# Altium integrated library Linear Technology Power Management PMIC Multifunction.IntLib: 360 symbols (part 5 of 42)
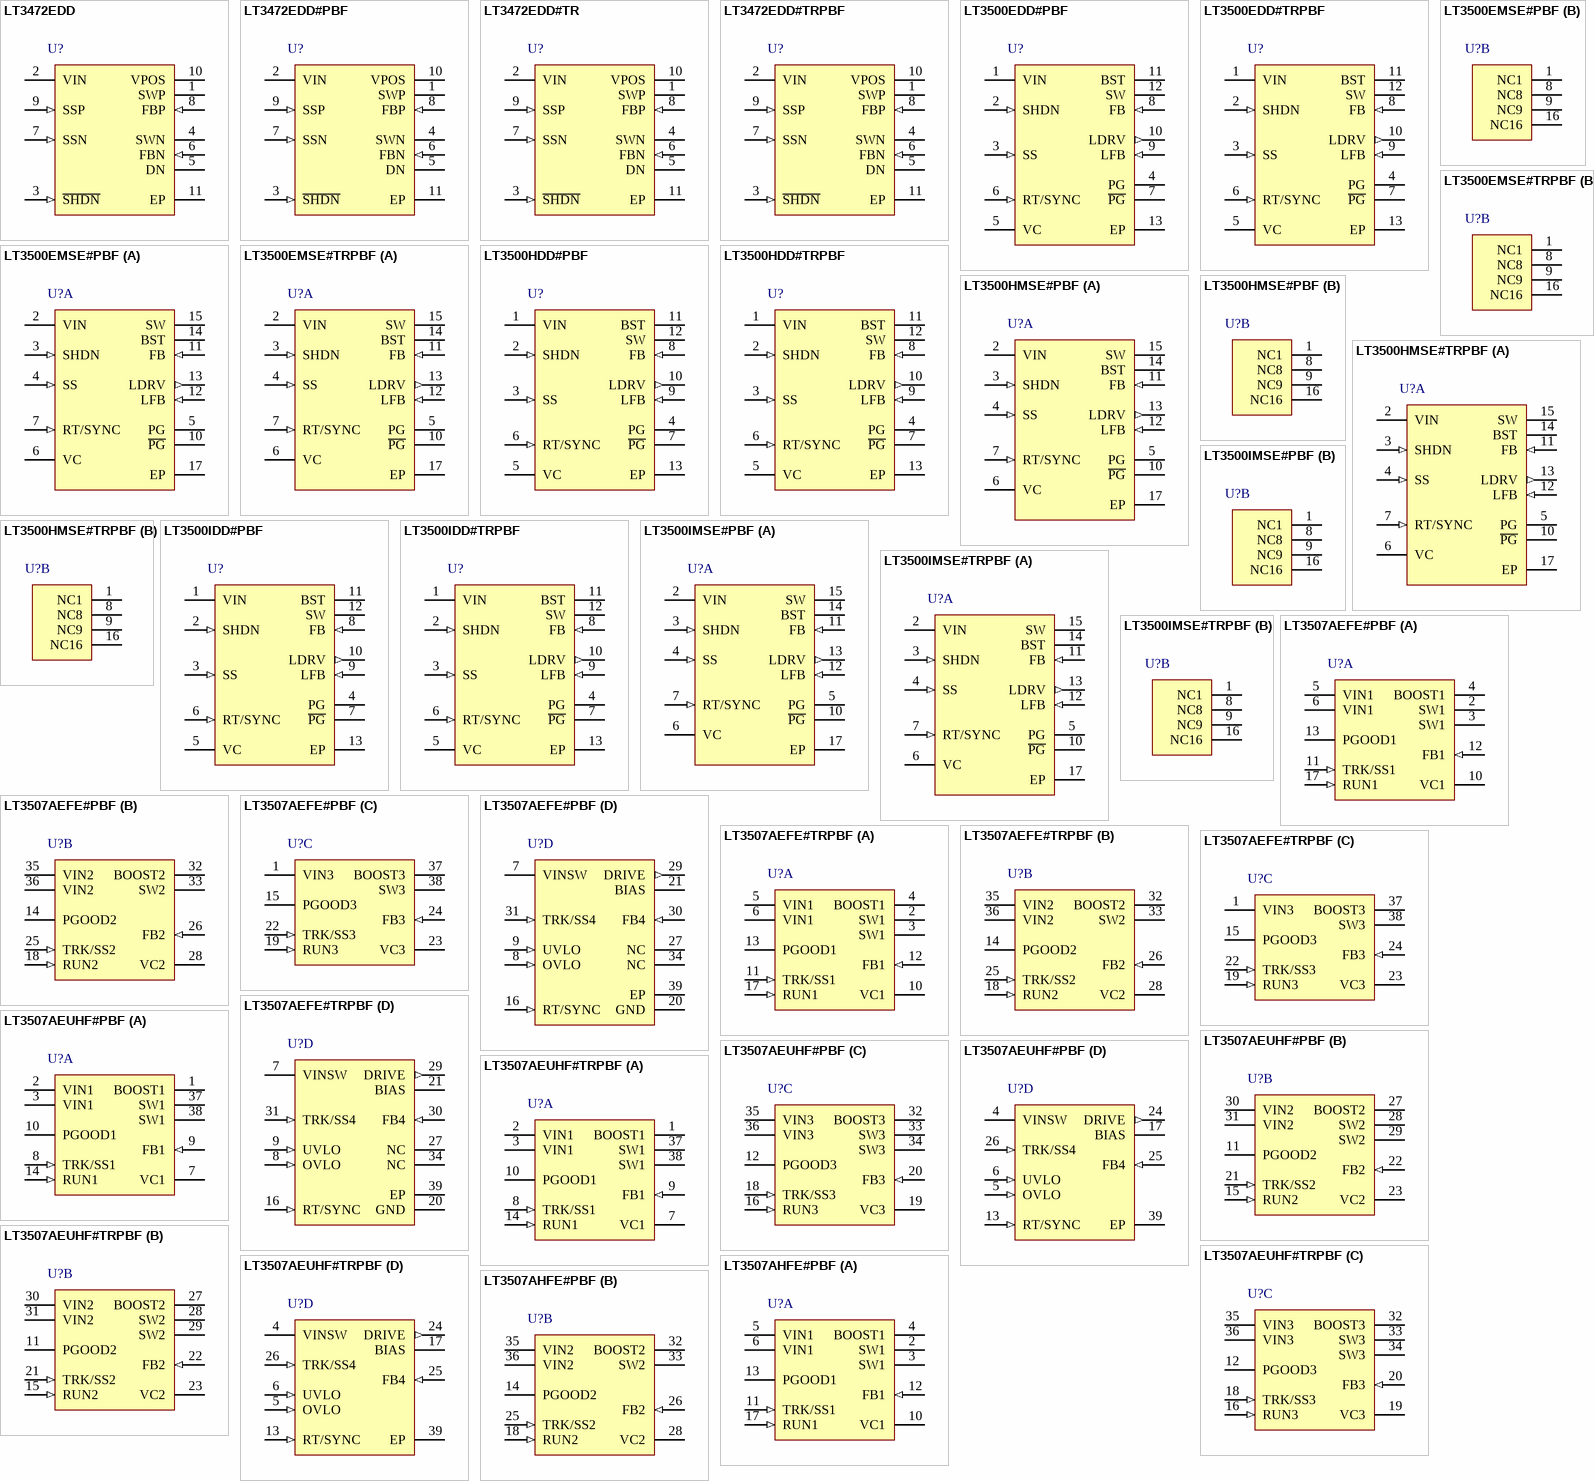
[diagram p22: symbols LT3472EDD to LT3507AHFE#PBF]

## LT3507AEUHF#PBF
designator U?
Triple Monolithic Step-Down Regulator with LDO, Improved Output Current, 4 to 36 V Vin, 38-pin QFN (UHF-38), -40 to 125 degC, Pb-Free; Manufacturer: Linear Technology; PartNumber: LT3507AEUHF#PBF; Number of Outputs: 4; Vin Max(V): 36; PackageVersion: Rev. C, 06/2010; PackageReference: UHF-38; PackageDescription: 38-Pin Plastic QFN, Body 7 x 5 mm, Pitch 0.5 mm; Supplier 1: Digi-Key; Supplier Part Number 1: LT3507AEUHF#PBF-ND; Supplier 2: Newark; Supplier Part Number 2: 59T9379; RoHS: TRUE; Vin Min(V): 4; Mounting Technology: Surface Mount; Code_JEDEC: MO-220; ComponentLink1Description: Manufacturer URL; ComponentLink1URL: http://www.linear.com/; ComponentLink2Description: Datasheet; ComponentLink2URL: http://cds.linear.com/docs/en/datasheet/3507af.pdf; ComponentLink3Description: Package Specification; ComponentLink3URL: http://cds.linear.com/docs/en/packaging/QFN_38_05-08-1701.pdf
footprint LT-UHF-38_N (QFN, 38-Leads, Body 7.1x5.1mm, Pitch 0.5mm, Thermal Pad 3.15x5.15mm, IPC Medium Density)
footprint LT-UHF-38_L (QFN, 38-Leads, Body 7.1x5.1mm, Pitch 0.5mm, Thermal Pad 3.15x5.15mm, IPC High Density)
footprint LT-UHF-38_M (QFN, 38-Leads, Body 7.1x5.1mm, Pitch 0.5mm, Thermal Pad 3.15x5.15mm, IPC Low Density)
part A pins: 1 BOOST1 "The BOOST pins are used to provide drive voltages, higher than the input voltage, to the internal bipolar NPN power switches. These pins must be tied through a diode from VOUT, VIN or another supply greater than 2.5V.", 2 VIN1 (power), 3 VIN1 (power), 7 VC1 "The VC pins are the outputs of the internal error amps. The voltages on these pins control the peak switch currents. These pins are normally used to compensate the control loops. Each switching regulator can be shut down by (See Datasheet)", 8 TRK/SS1 (in), 9 FB1 (in), 10 PGOOD1 (hiz) "The PGOOD pins are the open-collector outputs of an internal comparator. PGOOD remains low until the FB pin is within 10% of the final regulation voltage. As well as indicating output regulation, the PGOOD pins can sequence (See Datasheet)", 14 RUN1 (in), 37 SW1 (power) "The SW pins are the outputs of the internal power switches. Connect these pins to the inductors and switching diodes", 38 SW1 (power) "The SW pins are the outputs of the internal power switches. Connect these pins to the inductors and switching diodes"
part B pins: 11 PGOOD2 (hiz) "The PGOOD pins are the open-collector outputs of an internal comparator. PGOOD remains low until the FB pin is within 10% of the final regulation voltage. As well as indicating output regulation, the PGOOD pins can sequence (See Datasheet)", 15 RUN2 (in), 21 TRK/SS2 (in), 22 FB2 (in), 23 VC2 "The VC pins are the outputs of the internal error amps. The voltages on these pins control the peak switch currents. These pins are normally used to compensate the control loops. Each switching regulator can be shut down by (See Datasheet)", 27 BOOST2 "The BOOST pins are used to provide drive voltages, higher than the input voltage, to the internal bipolar NPN power switches. These pins must be tied through a diode from VOUT, VIN or another supply greater than 2.5V.", 28 SW2 (power) "The SW pins are the outputs of the internal power switches. Connect these pins to the inductors and switching diodes", 29 SW2 (power) "The SW pins are the outputs of the internal power switches. Connect these pins to the inductors and switching diodes", 30 VIN2 (power), 31 VIN2 (power)
part C pins: 12 PGOOD3 (hiz) "The PGOOD pins are the open-collector outputs of an internal comparator. PGOOD remains low until the FB pin is within 10% of the final regulation voltage. As well as indicating output regulation, the PGOOD pins can sequence (See Datasheet)", 16 RUN3 (in), 18 TRK/SS3 (in), 19 VC3 "The VC pins are the outputs of the internal error amps. The voltages on these pins control the peak switch currents. These pins are normally used to compensate the control loops. Each switching regulator can be shut down by (See Datasheet)", 20 FB3 (in), 32 BOOST3 "The BOOST pins are used to provide drive voltages, higher than the input voltage, to the internal bipolar NPN power switches. These pins must be tied through a diode from VOUT, VIN or another supply greater than 2.5V.", 33 SW3 (power) "The SW pins are the outputs of the internal power switches. Connect these pins to the inductors and switching diodes", 34 SW3 (power) "The SW pins are the outputs of the internal power switches. Connect these pins to the inductors and switching diodes", 35 VIN3 (power), 36 VIN3 (power)
part D pins: 4 VINSW (power) "The VINSW pin is a switched VIN1 for the user programmable undervoltage and overvoltage detection. It is connected to VIN1 when any of the RUN pins are pulled high, and high impedance when all RUN pins are low or open.", 5 OVLO (in), 6 UVLO (in), 13 RT/SYNC (in), 17 BIAS (power), 24 DRIVE (out) "The DRIVE pin provides the base drive for an external NPN transistor used for the LDO regulator.", 25 FB4 (in) "The FB4 pin is the negative input to the LDO error amplifier. It is regulated to 0.8V through the LDO feedback resistor divider.", 26 TRK/SS4 (in), 39 EP (power) "Ground. The underside exposed pad metal of the package provides both electrical contact to ground and good thermal contact to the printed circuit board. The exposed pad must be soldered to a grounded pad on the circuit board (See Datasheet)"

## LT3507AEUHF#TRPBF
designator U?
Triple Monolithic Step-Down Regulator with LDO, Improved Output Current, 4 to 36 V Vin, 38-pin QFN (UHF-38), -40 to 125 degC, Pb-Free, Tape and Reel; Manufacturer: Linear Technology; PartNumber: LT3507AEUHF#TRPBF; Number of Outputs: 4; Vin Max(V): 36; PackageVersion: Rev. C, 06/2010; PackageReference: UHF-38; PackageDescription: 38-Pin Plastic QFN, Body 7 x 5 mm, Pitch 0.5 mm; Supplier 1: Digi-Key; Supplier Part Number 1: LT3507AEUHF#TRPBF-ND; Packing: Tape and Reel; RoHS: TRUE; Vin Min(V): 4; Mounting Technology: Surface Mount; Code_JEDEC: MO-220; ComponentLink1Description: Manufacturer URL; ComponentLink1URL: http://www.linear.com/; ComponentLink2Description: Datasheet; ComponentLink2URL: http://cds.linear.com/docs/en/datasheet/3507af.pdf; ComponentLink3Description: Package Specification; ComponentLink3URL: http://cds.linear.com/docs/en/packaging/QFN_38_05-08-1701.pdf
footprint LT-UHF-38_N (QFN, 38-Leads, Body 7.1x5.1mm, Pitch 0.5mm, Thermal Pad 3.15x5.15mm, IPC Medium Density)
footprint LT-UHF-38_L (QFN, 38-Leads, Body 7.1x5.1mm, Pitch 0.5mm, Thermal Pad 3.15x5.15mm, IPC High Density)
footprint LT-UHF-38_M (QFN, 38-Leads, Body 7.1x5.1mm, Pitch 0.5mm, Thermal Pad 3.15x5.15mm, IPC Low Density)
part A pins: 1 BOOST1 "The BOOST pins are used to provide drive voltages, higher than the input voltage, to the internal bipolar NPN power switches. These pins must be tied through a diode from VOUT, VIN or another supply greater than 2.5V.", 2 VIN1 (power), 3 VIN1 (power), 7 VC1 "The VC pins are the outputs of the internal error amps. The voltages on these pins control the peak switch currents. These pins are normally used to compensate the control loops. Each switching regulator can be shut down by (See Datasheet)", 8 TRK/SS1 (in), 9 FB1 (in), 10 PGOOD1 (hiz) "The PGOOD pins are the open-collector outputs of an internal comparator. PGOOD remains low until the FB pin is within 10% of the final regulation voltage. As well as indicating output regulation, the PGOOD pins can sequence (See Datasheet)", 14 RUN1 (in), 37 SW1 (power) "The SW pins are the outputs of the internal power switches. Connect these pins to the inductors and switching diodes", 38 SW1 (power) "The SW pins are the outputs of the internal power switches. Connect these pins to the inductors and switching diodes"
part B pins: 11 PGOOD2 (hiz) "The PGOOD pins are the open-collector outputs of an internal comparator. PGOOD remains low until the FB pin is within 10% of the final regulation voltage. As well as indicating output regulation, the PGOOD pins can sequence (See Datasheet)", 15 RUN2 (in), 21 TRK/SS2 (in), 22 FB2 (in), 23 VC2 "The VC pins are the outputs of the internal error amps. The voltages on these pins control the peak switch currents. These pins are normally used to compensate the control loops. Each switching regulator can be shut down by (See Datasheet)", 27 BOOST2 "The BOOST pins are used to provide drive voltages, higher than the input voltage, to the internal bipolar NPN power switches. These pins must be tied through a diode from VOUT, VIN or another supply greater than 2.5V.", 28 SW2 (power) "The SW pins are the outputs of the internal power switches. Connect these pins to the inductors and switching diodes", 29 SW2 (power) "The SW pins are the outputs of the internal power switches. Connect these pins to the inductors and switching diodes", 30 VIN2 (power), 31 VIN2 (power)
part C pins: 12 PGOOD3 (hiz) "The PGOOD pins are the open-collector outputs of an internal comparator. PGOOD remains low until the FB pin is within 10% of the final regulation voltage. As well as indicating output regulation, the PGOOD pins can sequence (See Datasheet)", 16 RUN3 (in), 18 TRK/SS3 (in), 19 VC3 "The VC pins are the outputs of the internal error amps. The voltages on these pins control the peak switch currents. These pins are normally used to compensate the control loops. Each switching regulator can be shut down by (See Datasheet)", 20 FB3 (in), 32 BOOST3 "The BOOST pins are used to provide drive voltages, higher than the input voltage, to the internal bipolar NPN power switches. These pins must be tied through a diode from VOUT, VIN or another supply greater than 2.5V.", 33 SW3 (power) "The SW pins are the outputs of the internal power switches. Connect these pins to the inductors and switching diodes", 34 SW3 (power) "The SW pins are the outputs of the internal power switches. Connect these pins to the inductors and switching diodes", 35 VIN3 (power), 36 VIN3 (power)
part D pins: 4 VINSW (power) "The VINSW pin is a switched VIN1 for the user programmable undervoltage and overvoltage detection. It is connected to VIN1 when any of the RUN pins are pulled high, and high impedance when all RUN pins are low or open.", 5 OVLO (in), 6 UVLO (in), 13 RT/SYNC (in), 17 BIAS (power), 24 DRIVE (out) "The DRIVE pin provides the base drive for an external NPN transistor used for the LDO regulator.", 25 FB4 (in) "The FB4 pin is the negative input to the LDO error amplifier. It is regulated to 0.8V through the LDO feedback resistor divider.", 26 TRK/SS4 (in), 39 EP (power) "Ground. The underside exposed pad metal of the package provides both electrical contact to ground and good thermal contact to the printed circuit board. The exposed pad must be soldered to a grounded pad on the circuit board (See Datasheet)"

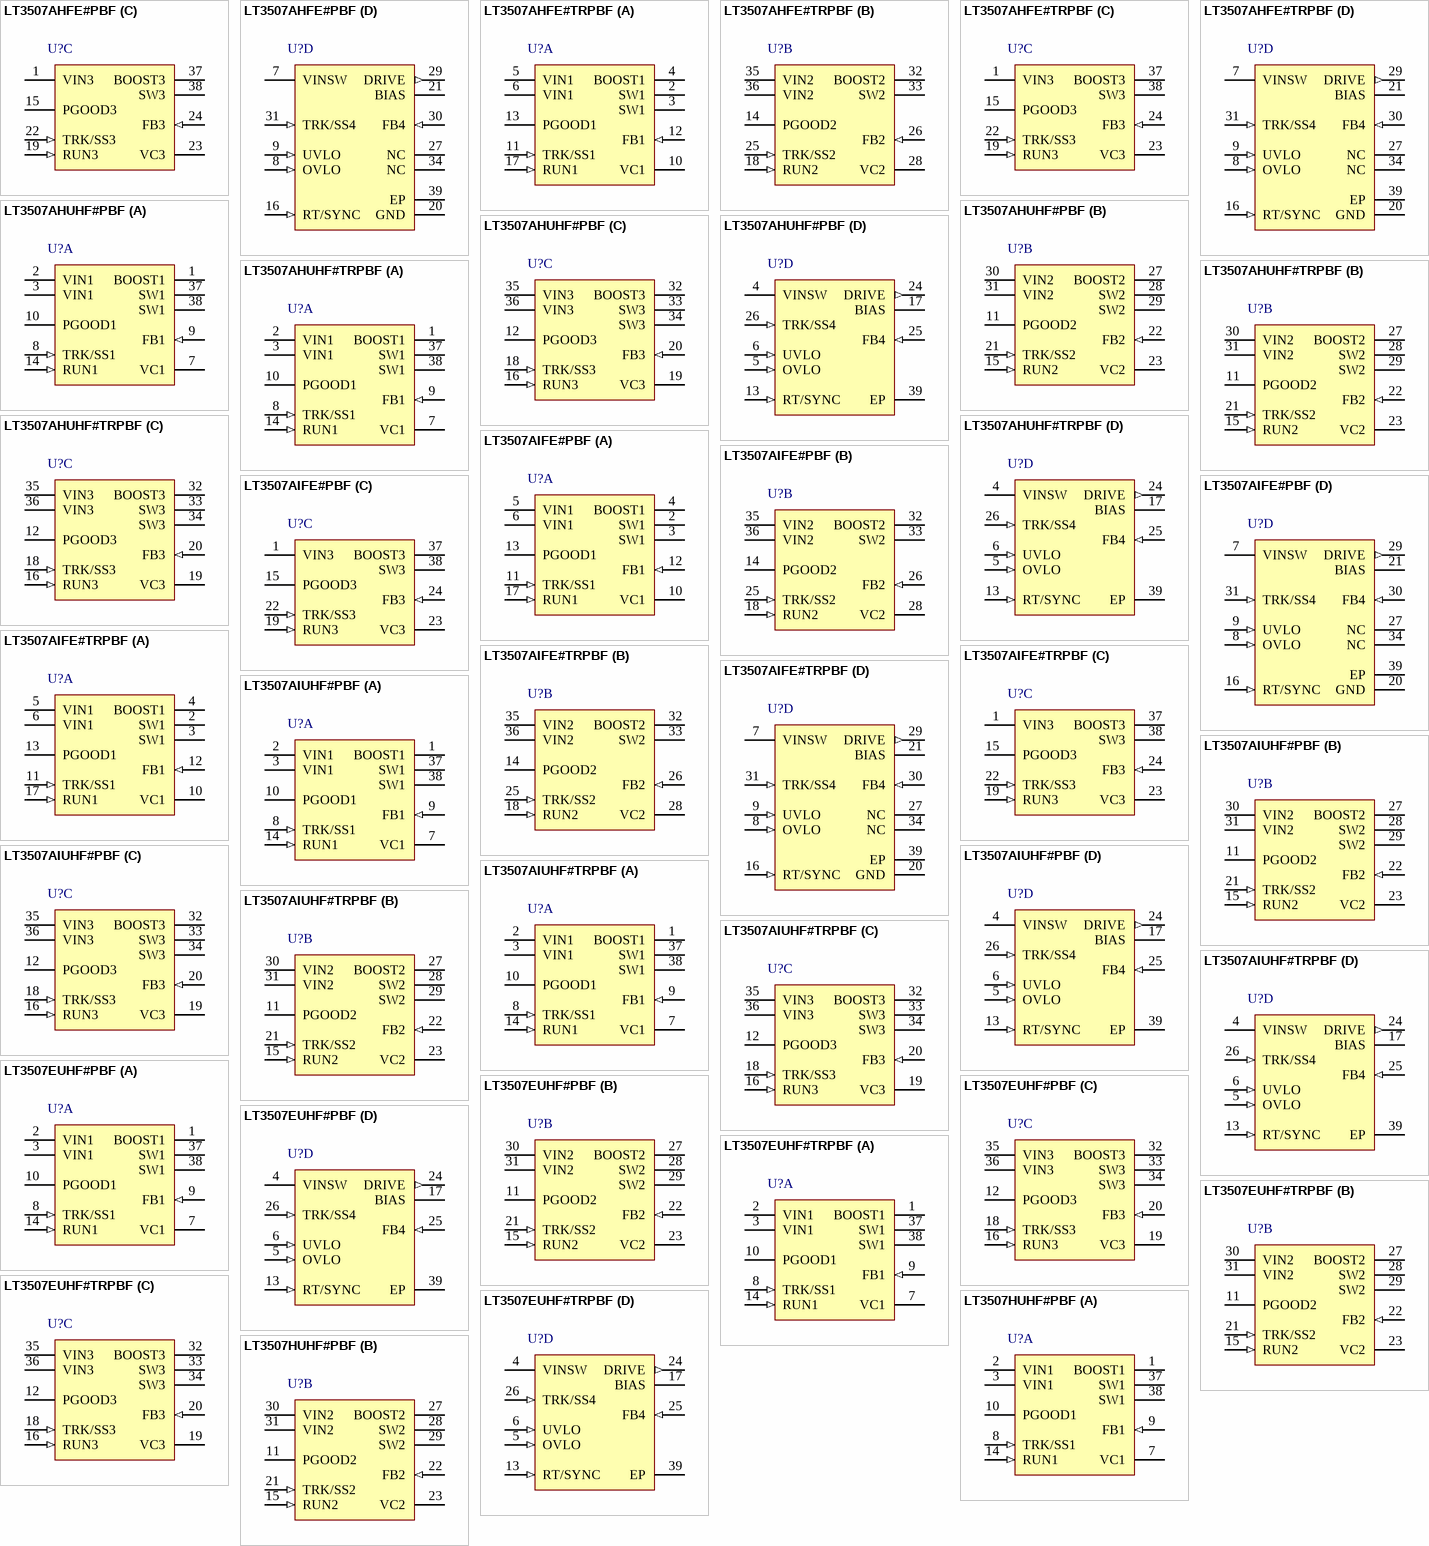
[diagram p2: symbols LT3507AHFE#PBF to LT3507HUHF#PBF]

## LT3507AHFE#PBF
designator U?
Triple Monolithic Step-Down Regulator with LDO, Improved Output Current, 4 to 36 V Vin, 38-pin SOP (FE-38-EPV-AA), -40 to 150 degC, Pb-Free; Manufacturer: Linear Technology; PartNumber: LT3507AHFE#PBF; Number of Outputs: 4; Vin Max(V): 36; PackageVersion: Rev. C, 09/2010; PackageReference: FE-38; PackageDescription: 38-Pin Plastic TSSOP, Body 9.7 x 4.4 mm, Pitch 0.5 mm; Supplier 1: Digi-Key; Supplier Part Number 1: LT3507AHFE#PBF-ND; RoHS: TRUE; Vin Min(V): 4; Mounting Technology: Surface Mount; ComponentLink1Description: Manufacturer URL; ComponentLink1URL: http://www.linear.com/; ComponentLink2Description: Datasheet; ComponentLink2URL: http://cds.linear.com/docs/en/datasheet/3507af.pdf; ComponentLink3Description: Package Specification; ComponentLink3URL: http://cds.linear.com/docs/en/packaging/TSSOP_38_05-08-1772.pdf
footprint LT-FE-38-EPV-AA_N (SOP, 38-Leads, Body 9.8x4.5mm, Pitch 0.5mm, Thermal Pad 4.75x2.74mm, IPC Medium Density)
footprint LT-FE-38-EPV-AA_L (SOP, 38-Leads, Body 9.8x4.5mm, Pitch 0.5mm, Thermal Pad 4.75x2.74mm, IPC High Density)
footprint LT-FE-38-EPV-AA_M (SOP, 38-Leads, Body 9.8x4.5mm, Pitch 0.5mm, Thermal Pad 4.75x2.74mm, IPC Low Density)
part A pins: 2 SW1 (power) "The SW pins are the outputs of the internal power switches. Connect these pins to the inductors and switching diodes", 3 SW1 (power) "The SW pins are the outputs of the internal power switches. Connect these pins to the inductors and switching diodes", 4 BOOST1 "The BOOST pins are used to provide drive voltages, higher than the input voltage, to the internal bipolar NPN power switches. These pins must be tied through a diode from VOUT, VIN or another supply greater than 2.5V.", 5 VIN1 (power) "The VIN1 pins supply power to the internal switch of the 2.7A regulator and to the LT3507A’s internal reference and start-up circuitry. These pins must be locally bypassed.", 6 VIN1 (power) "The VIN1 pins supply power to the internal switch of the 2.7A regulator and to the LT3507A’s internal reference and start-up circuitry. These pins must be locally bypassed.", 10 VC1 "The VC pins are the outputs of the internal error amps. The voltages on these pins control the peak switch currents. These pins are normally used to compensate the control loops. Each switching regulator can be shut down by (See Datasheet)", 11 TRK/SS1 (in) "The TRK/SS pins allow a regulator to track the output of another regulator. When the TRK/SS pin is below 0.8V, the FB pin regulates to the TRK/SS voltage. This pin souces 1.25uA and can be used as a soft-start by connecting (See Datasheet)", 12 FB1 (in) "The FB pins are the negative inputs of the error amplifiers. The LT3507A regulates each feedback pin to the lesser of 0.8V or the TRK/SS pin voltage. Connect the feedback resistor divider taps to these pins", 13 PGOOD1 (hiz) "The PGOOD pins are the open-collector outputs of an internal comparator. PGOOD remains low until the FB pin is within 10% of the final regulation voltage. As well as indicating output regulation, the PGOOD pins can sequence (See Datasheet)", 17 RUN1 (in) "The RUN pins are used to shut down the individual switching regulators. When all three RUN pins are low, the LT3507A shuts down and draws less than 1uA from VIN1."
part B pins: 14 PGOOD2 (hiz) "The PGOOD pins are the open-collector outputs of an internal comparator. PGOOD remains low until the FB pin is within 10% of the final regulation voltage. As well as indicating output regulation, the PGOOD pins can sequence (See Datasheet)", 18 RUN2 (in) "The RUN pins are used to shut down the individual switching regulators. When all three RUN pins are low, the LT3507A shuts down and draws less than 1uA from VIN1.", 25 TRK/SS2 (in) "The TRK/SS pins allow a regulator to track the output of another regulator. When the TRK/SS pin is below 0.8V, the FB pin regulates to the TRK/SS voltage. This pin souces 1.25uA and can be used as a soft-start by connecting (See Datasheet)", 26 FB2 (in) "The FB pins are the negative inputs of the error amplifiers. The LT3507A regulates each feedback pin to the lesser of 0.8V or the TRK/SS pin voltage. Connect the feedback resistor divider taps to these pins.", 28 VC2 "The VC pins are the outputs of the internal error amps. The voltages on these pins control the peak switch currents. These pins are normally used to compensate the control loops. Each switching regulator can be shut down by (See Datasheet)", 32 BOOST2 "The BOOST pins are used to provide drive voltages, higher than the input voltage, to the internal bipolar NPN power switches. These pins must be tied through a diode from VOUT, VIN or another supply greater than 2.5V.", 33 SW2 (power) "The SW pins are the outputs of the internal power switches. Connect these pins to the inductors and switching diodes", 35 VIN2 (power) "The VIN2 and VIN3 pins supply power to the internal switches of the 1.8A converters. These pins must be locally bypassed.", 36 VIN2 (power) "The VIN2 and VIN3 pins supply power to the internal switches of the 1.8A converters. These pins must be locally bypassed."
part C pins: 1 VIN3 (power) "The VIN2 and VIN3 pins supply power to the internal switches of the 1.8A converters. These pins must be locally bypassed.", 15 PGOOD3 (hiz) "The PGOOD pins are the open-collector outputs of an internal comparator. PGOOD remains low until the FB pin is within 10% of the final regulation voltage. As well as indicating output regulation, the PGOOD pins can sequence (See Datasheet)", 19 RUN3 (in) "The RUN pins are used to shut down the individual switching regulators. When all three RUN pins are low, the LT3507A shuts down and draws less than 1uA from VIN1.", 22 TRK/SS3 (in) "The TRK/SS pins allow a regulator to track the output of another regulator. When the TRK/SS pin is below 0.8V, the FB pin regulates to the TRK/SS voltage. This pin souces 1.25uA and can be used as a soft-start by connecting (See Datasheet)", 23 VC3 "The VC pins are the outputs of the internal error amps. The voltages on these pins control the peak switch currents. These pins are normally used to compensate the control loops. Each switching regulator can be shut down by (See Datasheet)", 24 FB3 (in) "The FB pins are the negative inputs of the error amplifiers. The LT3507A regulates each feedback pin to the lesser of 0.8V or the TRK/SS pin voltage. Connect the feedback resistor divider taps to these pins", 37 BOOST3 "The BOOST pins are used to provide drive voltages, higher than the input voltage, to the internal bipolar NPN power switches. These pins must be tied through a diode from VOUT, VIN or another supply greater than 2.5V.", 38 SW3 (power) "The SW pins are the outputs of the internal power switches. Connect these pins to the inductors and switching diodes"
part D pins: 7 VINSW (power) "The VINSW pin is a switched VIN1 for the user programmable undervoltage and overvoltage detection. It is connected to VIN1 when any of the RUN pins are pulled high, and high impedance when all RUN pins are low or open.", 8 OVLO (in) "The LT3507A goes into overvoltage shutdown when this pin goes above 1.2V. If unused, the OVLO pin should be tied to GND.", 9 UVLO (in) "The LT3507A goes into undervoltage shutdown when this pin drops below 1.2V. If unused, the UVLO pin should be tied to VINSW.", 16 RT/SYNC (in) "The RT/SYNC pin requires a resistor to ground or a clock signal to set the operating frequency of the LT3507A.", 20 GND (power) "Ground. The underside exposed pad metal of the package provides both electrical contact to ground and good thermal contact to the printed circuit board. The exposed pad must be soldered to a grounded pad on the circuit board (See Datasheet)", 21 BIAS (power) "The BIAS pin supplies the current to the LT3507A’s internal regulator. This pin should be tied to the lowest available voltage source above 3V (either VIN, VOUT or any other available supply). The LDO pass transistor?(See Datasheet)", 27 NC, 29 DRIVE (out) "The DRIVE pin provides the base drive for an external NPN transistor used for the LDO regulator.", 30 FB4 (in) "The FB4 pin is the negative input to the LDO error amplifier. It is regulated to 0.8V through the LDO feedback resistor divider.", 31 TRK/SS4 (in) "The TRK/SS pins allow a regulator to track the output of another regulator. When the TRK/SS pin is below 0.8V, the FB pin regulates to the TRK/SS voltage. This pin souces 1.25uA and can be used as a soft-start by connecting (See Datasheet)", 34 NC, 39 EP (power) "Ground. The underside exposed pad metal of the package provides both electrical contact to ground and good thermal contact to the printed circuit board. The exposed pad must be soldered to a grounded pad on the circuit board (See Datasheet)"

## LT3507AHFE#TRPBF
designator U?
Triple Monolithic Step-Down Regulator with LDO, Improved Output Current, 4 to 36 V Vin, 38-pin SOP (FE-38-EPV-AA), -40 to 150 degC, Pb-Free, Tape and Reel; Manufacturer: Linear Technology; PartNumber: LT3507AHFE#TRPBF; Number of Outputs: 4; Vin Max(V): 36; PackageVersion: Rev. C, 09/2010; PackageReference: FE-38; PackageDescription: 38-Pin Plastic TSSOP, Body 9.7 x 4.4 mm, Pitch 0.5 mm; Supplier 1: Digi-Key; Supplier Part Number 1: LT3507AHFE#TRPBF-ND; Packing: Tape and Reel; RoHS: TRUE; Vin Min(V): 4; Mounting Technology: Surface Mount; ComponentLink1Description: Manufacturer URL; ComponentLink1URL: http://www.linear.com/; ComponentLink2Description: Datasheet; ComponentLink2URL: http://cds.linear.com/docs/en/datasheet/3507af.pdf; ComponentLink3Description: Package Specification; ComponentLink3URL: http://cds.linear.com/docs/en/packaging/TSSOP_38_05-08-1772.pdf
footprint LT-FE-38-EPV-AA_N (SOP, 38-Leads, Body 9.8x4.5mm, Pitch 0.5mm, Thermal Pad 4.75x2.74mm, IPC Medium Density)
footprint LT-FE-38-EPV-AA_L (SOP, 38-Leads, Body 9.8x4.5mm, Pitch 0.5mm, Thermal Pad 4.75x2.74mm, IPC High Density)
footprint LT-FE-38-EPV-AA_M (SOP, 38-Leads, Body 9.8x4.5mm, Pitch 0.5mm, Thermal Pad 4.75x2.74mm, IPC Low Density)
part A pins: 2 SW1 (power) "The SW pins are the outputs of the internal power switches. Connect these pins to the inductors and switching diodes", 3 SW1 (power) "The SW pins are the outputs of the internal power switches. Connect these pins to the inductors and switching diodes", 4 BOOST1 "The BOOST pins are used to provide drive voltages, higher than the input voltage, to the internal bipolar NPN power switches. These pins must be tied through a diode from VOUT, VIN or another supply greater than 2.5V.", 5 VIN1 (power) "The VIN1 pins supply power to the internal switch of the 2.7A regulator and to the LT3507A’s internal reference and start-up circuitry. These pins must be locally bypassed.", 6 VIN1 (power) "The VIN1 pins supply power to the internal switch of the 2.7A regulator and to the LT3507A’s internal reference and start-up circuitry. These pins must be locally bypassed.", 10 VC1 "The VC pins are the outputs of the internal error amps. The voltages on these pins control the peak switch currents. These pins are normally used to compensate the control loops. Each switching regulator can be shut down by (See Datasheet)", 11 TRK/SS1 (in) "The TRK/SS pins allow a regulator to track the output of another regulator. When the TRK/SS pin is below 0.8V, the FB pin regulates to the TRK/SS voltage. This pin souces 1.25uA and can be used as a soft-start by connecting (See Datasheet)", 12 FB1 (in) "The FB pins are the negative inputs of the error amplifiers. The LT3507A regulates each feedback pin to the lesser of 0.8V or the TRK/SS pin voltage. Connect the feedback resistor divider taps to these pins", 13 PGOOD1 (hiz) "The PGOOD pins are the open-collector outputs of an internal comparator. PGOOD remains low until the FB pin is within 10% of the final regulation voltage. As well as indicating output regulation, the PGOOD pins can sequence (See Datasheet)", 17 RUN1 (in) "The RUN pins are used to shut down the individual switching regulators. When all three RUN pins are low, the LT3507A shuts down and draws less than 1uA from VIN1."
part B pins: 14 PGOOD2 (hiz) "The PGOOD pins are the open-collector outputs of an internal comparator. PGOOD remains low until the FB pin is within 10% of the final regulation voltage. As well as indicating output regulation, the PGOOD pins can sequence (See Datasheet)", 18 RUN2 (in) "The RUN pins are used to shut down the individual switching regulators. When all three RUN pins are low, the LT3507A shuts down and draws less than 1uA from VIN1.", 25 TRK/SS2 (in) "The TRK/SS pins allow a regulator to track the output of another regulator. When the TRK/SS pin is below 0.8V, the FB pin regulates to the TRK/SS voltage. This pin souces 1.25uA and can be used as a soft-start by connecting (See Datasheet)", 26 FB2 (in) "The FB pins are the negative inputs of the error amplifiers. The LT3507A regulates each feedback pin to the lesser of 0.8V or the TRK/SS pin voltage. Connect the feedback resistor divider taps to these pins.", 28 VC2 "The VC pins are the outputs of the internal error amps. The voltages on these pins control the peak switch currents. These pins are normally used to compensate the control loops. Each switching regulator can be shut down by (See Datasheet)", 32 BOOST2 "The BOOST pins are used to provide drive voltages, higher than the input voltage, to the internal bipolar NPN power switches. These pins must be tied through a diode from VOUT, VIN or another supply greater than 2.5V.", 33 SW2 (power) "The SW pins are the outputs of the internal power switches. Connect these pins to the inductors and switching diodes", 35 VIN2 (power) "The VIN2 and VIN3 pins supply power to the internal switches of the 1.8A converters. These pins must be locally bypassed.", 36 VIN2 (power) "The VIN2 and VIN3 pins supply power to the internal switches of the 1.8A converters. These pins must be locally bypassed."
part C pins: 1 VIN3 (power) "The VIN2 and VIN3 pins supply power to the internal switches of the 1.8A converters. These pins must be locally bypassed.", 15 PGOOD3 (hiz) "The PGOOD pins are the open-collector outputs of an internal comparator. PGOOD remains low until the FB pin is within 10% of the final regulation voltage. As well as indicating output regulation, the PGOOD pins can sequence (See Datasheet)", 19 RUN3 (in) "The RUN pins are used to shut down the individual switching regulators. When all three RUN pins are low, the LT3507A shuts down and draws less than 1uA from VIN1.", 22 TRK/SS3 (in) "The TRK/SS pins allow a regulator to track the output of another regulator. When the TRK/SS pin is below 0.8V, the FB pin regulates to the TRK/SS voltage. This pin souces 1.25uA and can be used as a soft-start by connecting (See Datasheet)", 23 VC3 "The VC pins are the outputs of the internal error amps. The voltages on these pins control the peak switch currents. These pins are normally used to compensate the control loops. Each switching regulator can be shut down by (See Datasheet)", 24 FB3 (in) "The FB pins are the negative inputs of the error amplifiers. The LT3507A regulates each feedback pin to the lesser of 0.8V or the TRK/SS pin voltage. Connect the feedback resistor divider taps to these pins", 37 BOOST3 "The BOOST pins are used to provide drive voltages, higher than the input voltage, to the internal bipolar NPN power switches. These pins must be tied through a diode from VOUT, VIN or another supply greater than 2.5V.", 38 SW3 (power) "The SW pins are the outputs of the internal power switches. Connect these pins to the inductors and switching diodes"
part D pins: 7 VINSW (power) "The VINSW pin is a switched VIN1 for the user programmable undervoltage and overvoltage detection. It is connected to VIN1 when any of the RUN pins are pulled high, and high impedance when all RUN pins are low or open.", 8 OVLO (in) "The LT3507A goes into overvoltage shutdown when this pin goes above 1.2V. If unused, the OVLO pin should be tied to GND.", 9 UVLO (in) "The LT3507A goes into undervoltage shutdown when this pin drops below 1.2V. If unused, the UVLO pin should be tied to VINSW.", 16 RT/SYNC (in) "The RT/SYNC pin requires a resistor to ground or a clock signal to set the operating frequency of the LT3507A.", 20 GND (power) "Ground. The underside exposed pad metal of the package provides both electrical contact to ground and good thermal contact to the printed circuit board. The exposed pad must be soldered to a grounded pad on the circuit board (See Datasheet)", 21 BIAS (power) "The BIAS pin supplies the current to the LT3507A’s internal regulator. This pin should be tied to the lowest available voltage source above 3V (either VIN, VOUT or any other available supply). The LDO pass transistor?(See Datasheet)", 27 NC, 29 DRIVE (out) "The DRIVE pin provides the base drive for an external NPN transistor used for the LDO regulator.", 30 FB4 (in) "The FB4 pin is the negative input to the LDO error amplifier. It is regulated to 0.8V through the LDO feedback resistor divider.", 31 TRK/SS4 (in) "The TRK/SS pins allow a regulator to track the output of another regulator. When the TRK/SS pin is below 0.8V, the FB pin regulates to the TRK/SS voltage. This pin souces 1.25uA and can be used as a soft-start by connecting (See Datasheet)", 34 NC, 39 EP (power) "Ground. The underside exposed pad metal of the package provides both electrical contact to ground and good thermal contact to the printed circuit board. The exposed pad must be soldered to a grounded pad on the circuit board (See Datasheet)"

## LT3507AHUHF#PBF
designator U?
Triple Monolithic Step-Down Regulator with LDO, Improved Output Current, 4 to 36 V Vin, 38-pin QFN (UHF-38), -40 to 150 degC, Pb-Free; Manufacturer: Linear Technology; PartNumber: LT3507AHUHF#PBF; Number of Outputs: 4; Vin Max(V): 36; PackageVersion: Rev. C, 06/2010; PackageReference: UHF-38; PackageDescription: 38-Pin Plastic QFN, Body 7 x 5 mm, Pitch 0.5 mm; Supplier 1: Digi-Key; Supplier Part Number 1: LT3507AHUHF#PBF-ND; RoHS: TRUE; Vin Min(V): 4; Mounting Technology: Surface Mount; Code_JEDEC: MO-220; ComponentLink1Description: Manufacturer URL; ComponentLink1URL: http://www.linear.com/; ComponentLink2Description: Datasheet; ComponentLink2URL: http://cds.linear.com/docs/en/datasheet/3507af.pdf; ComponentLink3Description: Package Specification; ComponentLink3URL: http://cds.linear.com/docs/en/packaging/QFN_38_05-08-1701.pdf
footprint LT-UHF-38_N (QFN, 38-Leads, Body 7.1x5.1mm, Pitch 0.5mm, Thermal Pad 3.15x5.15mm, IPC Medium Density)
footprint LT-UHF-38_L (QFN, 38-Leads, Body 7.1x5.1mm, Pitch 0.5mm, Thermal Pad 3.15x5.15mm, IPC High Density)
footprint LT-UHF-38_M (QFN, 38-Leads, Body 7.1x5.1mm, Pitch 0.5mm, Thermal Pad 3.15x5.15mm, IPC Low Density)
part A pins: 1 BOOST1 "The BOOST pins are used to provide drive voltages, higher than the input voltage, to the internal bipolar NPN power switches. These pins must be tied through a diode from VOUT, VIN or another supply greater than 2.5V.", 2 VIN1 (power), 3 VIN1 (power), 7 VC1 "The VC pins are the outputs of the internal error amps. The voltages on these pins control the peak switch currents. These pins are normally used to compensate the control loops. Each switching regulator can be shut down by (See Datasheet)", 8 TRK/SS1 (in), 9 FB1 (in), 10 PGOOD1 (hiz) "The PGOOD pins are the open-collector outputs of an internal comparator. PGOOD remains low until the FB pin is within 10% of the final regulation voltage. As well as indicating output regulation, the PGOOD pins can sequence (See Datasheet)", 14 RUN1 (in), 37 SW1 (power) "The SW pins are the outputs of the internal power switches. Connect these pins to the inductors and switching diodes", 38 SW1 (power) "The SW pins are the outputs of the internal power switches. Connect these pins to the inductors and switching diodes"
part B pins: 11 PGOOD2 (hiz) "The PGOOD pins are the open-collector outputs of an internal comparator. PGOOD remains low until the FB pin is within 10% of the final regulation voltage. As well as indicating output regulation, the PGOOD pins can sequence (See Datasheet)", 15 RUN2 (in), 21 TRK/SS2 (in), 22 FB2 (in), 23 VC2 "The VC pins are the outputs of the internal error amps. The voltages on these pins control the peak switch currents. These pins are normally used to compensate the control loops. Each switching regulator can be shut down by (See Datasheet)", 27 BOOST2 "The BOOST pins are used to provide drive voltages, higher than the input voltage, to the internal bipolar NPN power switches. These pins must be tied through a diode from VOUT, VIN or another supply greater than 2.5V.", 28 SW2 (power) "The SW pins are the outputs of the internal power switches. Connect these pins to the inductors and switching diodes", 29 SW2 (power) "The SW pins are the outputs of the internal power switches. Connect these pins to the inductors and switching diodes", 30 VIN2 (power), 31 VIN2 (power)
part C pins: 12 PGOOD3 (hiz) "The PGOOD pins are the open-collector outputs of an internal comparator. PGOOD remains low until the FB pin is within 10% of the final regulation voltage. As well as indicating output regulation, the PGOOD pins can sequence (See Datasheet)", 16 RUN3 (in), 18 TRK/SS3 (in), 19 VC3 "The VC pins are the outputs of the internal error amps. The voltages on these pins control the peak switch currents. These pins are normally used to compensate the control loops. Each switching regulator can be shut down by (See Datasheet)", 20 FB3 (in), 32 BOOST3 "The BOOST pins are used to provide drive voltages, higher than the input voltage, to the internal bipolar NPN power switches. These pins must be tied through a diode from VOUT, VIN or another supply greater than 2.5V.", 33 SW3 (power) "The SW pins are the outputs of the internal power switches. Connect these pins to the inductors and switching diodes", 34 SW3 (power) "The SW pins are the outputs of the internal power switches. Connect these pins to the inductors and switching diodes", 35 VIN3 (power), 36 VIN3 (power)
part D pins: 4 VINSW (power) "The VINSW pin is a switched VIN1 for the user programmable undervoltage and overvoltage detection. It is connected to VIN1 when any of the RUN pins are pulled high, and high impedance when all RUN pins are low or open.", 5 OVLO (in), 6 UVLO (in), 13 RT/SYNC (in), 17 BIAS (power), 24 DRIVE (out) "The DRIVE pin provides the base drive for an external NPN transistor used for the LDO regulator.", 25 FB4 (in) "The FB4 pin is the negative input to the LDO error amplifier. It is regulated to 0.8V through the LDO feedback resistor divider.", 26 TRK/SS4 (in), 39 EP (power) "Ground. The underside exposed pad metal of the package provides both electrical contact to ground and good thermal contact to the printed circuit board. The exposed pad must be soldered to a grounded pad on the circuit board (See Datasheet)"

## LT3507AHUHF#TRPBF
designator U?
Triple Monolithic Step-Down Regulator with LDO, Improved Output Current, 4 to 36 V Vin, 38-pin QFN (UHF-38), -40 to 150 degC, Pb-Free, Tape and Reel; Manufacturer: Linear Technology; PartNumber: LT3507AHUHF#TRPBF; Number of Outputs: 4; Vin Max(V): 36; PackageVersion: Rev. C, 06/2010; PackageReference: UHF-38; PackageDescription: 38-Pin Plastic QFN, Body 7 x 5 mm, Pitch 0.5 mm; Supplier 1: Digi-Key; Supplier Part Number 1: LT3507AHUHF#TRPBF-ND; Packing: Tape and Reel; RoHS: TRUE; Vin Min(V): 4; Mounting Technology: Surface Mount; Code_JEDEC: MO-220; ComponentLink1Description: Manufacturer URL; ComponentLink1URL: http://www.linear.com/; ComponentLink2Description: Datasheet; ComponentLink2URL: http://cds.linear.com/docs/en/datasheet/3507af.pdf; ComponentLink3Description: Package Specification; ComponentLink3URL: http://cds.linear.com/docs/en/packaging/QFN_38_05-08-1701.pdf
footprint LT-UHF-38_N (QFN, 38-Leads, Body 7.1x5.1mm, Pitch 0.5mm, Thermal Pad 3.15x5.15mm, IPC Medium Density)
footprint LT-UHF-38_L (QFN, 38-Leads, Body 7.1x5.1mm, Pitch 0.5mm, Thermal Pad 3.15x5.15mm, IPC High Density)
footprint LT-UHF-38_M (QFN, 38-Leads, Body 7.1x5.1mm, Pitch 0.5mm, Thermal Pad 3.15x5.15mm, IPC Low Density)
part A pins: 1 BOOST1 "The BOOST pins are used to provide drive voltages, higher than the input voltage, to the internal bipolar NPN power switches. These pins must be tied through a diode from VOUT, VIN or another supply greater than 2.5V.", 2 VIN1 (power), 3 VIN1 (power), 7 VC1 "The VC pins are the outputs of the internal error amps. The voltages on these pins control the peak switch currents. These pins are normally used to compensate the control loops. Each switching regulator can be shut down by (See Datasheet)", 8 TRK/SS1 (in), 9 FB1 (in), 10 PGOOD1 (hiz) "The PGOOD pins are the open-collector outputs of an internal comparator. PGOOD remains low until the FB pin is within 10% of the final regulation voltage. As well as indicating output regulation, the PGOOD pins can sequence (See Datasheet)", 14 RUN1 (in), 37 SW1 (power) "The SW pins are the outputs of the internal power switches. Connect these pins to the inductors and switching diodes", 38 SW1 (power) "The SW pins are the outputs of the internal power switches. Connect these pins to the inductors and switching diodes"
part B pins: 11 PGOOD2 (hiz) "The PGOOD pins are the open-collector outputs of an internal comparator. PGOOD remains low until the FB pin is within 10% of the final regulation voltage. As well as indicating output regulation, the PGOOD pins can sequence (See Datasheet)", 15 RUN2 (in), 21 TRK/SS2 (in), 22 FB2 (in), 23 VC2 "The VC pins are the outputs of the internal error amps. The voltages on these pins control the peak switch currents. These pins are normally used to compensate the control loops. Each switching regulator can be shut down by (See Datasheet)", 27 BOOST2 "The BOOST pins are used to provide drive voltages, higher than the input voltage, to the internal bipolar NPN power switches. These pins must be tied through a diode from VOUT, VIN or another supply greater than 2.5V.", 28 SW2 (power) "The SW pins are the outputs of the internal power switches. Connect these pins to the inductors and switching diodes", 29 SW2 (power) "The SW pins are the outputs of the internal power switches. Connect these pins to the inductors and switching diodes", 30 VIN2 (power), 31 VIN2 (power)
part C pins: 12 PGOOD3 (hiz) "The PGOOD pins are the open-collector outputs of an internal comparator. PGOOD remains low until the FB pin is within 10% of the final regulation voltage. As well as indicating output regulation, the PGOOD pins can sequence (See Datasheet)", 16 RUN3 (in), 18 TRK/SS3 (in), 19 VC3 "The VC pins are the outputs of the internal error amps. The voltages on these pins control the peak switch currents. These pins are normally used to compensate the control loops. Each switching regulator can be shut down by (See Datasheet)", 20 FB3 (in), 32 BOOST3 "The BOOST pins are used to provide drive voltages, higher than the input voltage, to the internal bipolar NPN power switches. These pins must be tied through a diode from VOUT, VIN or another supply greater than 2.5V.", 33 SW3 (power) "The SW pins are the outputs of the internal power switches. Connect these pins to the inductors and switching diodes", 34 SW3 (power) "The SW pins are the outputs of the internal power switches. Connect these pins to the inductors and switching diodes", 35 VIN3 (power), 36 VIN3 (power)
part D pins: 4 VINSW (power) "The VINSW pin is a switched VIN1 for the user programmable undervoltage and overvoltage detection. It is connected to VIN1 when any of the RUN pins are pulled high, and high impedance when all RUN pins are low or open.", 5 OVLO (in), 6 UVLO (in), 13 RT/SYNC (in), 17 BIAS (power), 24 DRIVE (out) "The DRIVE pin provides the base drive for an external NPN transistor used for the LDO regulator.", 25 FB4 (in) "The FB4 pin is the negative input to the LDO error amplifier. It is regulated to 0.8V through the LDO feedback resistor divider.", 26 TRK/SS4 (in), 39 EP (power) "Ground. The underside exposed pad metal of the package provides both electrical contact to ground and good thermal contact to the printed circuit board. The exposed pad must be soldered to a grounded pad on the circuit board (See Datasheet)"

## LT3507AIFE#PBF
designator U?
Triple Monolithic Step-Down Regulator with LDO, Improved Output Current, 4 to 36 V Vin, 38-pin SOP (FE-38-EPV-AA), -40 to 125 degC, Pb-Free; Manufacturer: Linear Technology; PartNumber: LT3507AIFE#PBF; Number of Outputs: 4; Vin Max(V): 36; PackageVersion: Rev. C, 09/2010; PackageReference: FE-38; PackageDescription: 38-Pin Plastic TSSOP, Body 9.7 x 4.4 mm, Pitch 0.5 mm; Supplier 1: Digi-Key; Supplier Part Number 1: LT3507AIFE#PBF-ND; RoHS: TRUE; Vin Min(V): 4; Mounting Technology: Surface Mount; ComponentLink1Description: Manufacturer URL; ComponentLink1URL: http://www.linear.com/; ComponentLink2Description: Datasheet; ComponentLink2URL: http://cds.linear.com/docs/en/datasheet/3507af.pdf; ComponentLink3Description: Package Specification; ComponentLink3URL: http://cds.linear.com/docs/en/packaging/TSSOP_38_05-08-1772.pdf
footprint LT-FE-38-EPV-AA_N (SOP, 38-Leads, Body 9.8x4.5mm, Pitch 0.5mm, Thermal Pad 4.75x2.74mm, IPC Medium Density)
footprint LT-FE-38-EPV-AA_L (SOP, 38-Leads, Body 9.8x4.5mm, Pitch 0.5mm, Thermal Pad 4.75x2.74mm, IPC High Density)
footprint LT-FE-38-EPV-AA_M (SOP, 38-Leads, Body 9.8x4.5mm, Pitch 0.5mm, Thermal Pad 4.75x2.74mm, IPC Low Density)
part A pins: 2 SW1 (power) "The SW pins are the outputs of the internal power switches. Connect these pins to the inductors and switching diodes", 3 SW1 (power) "The SW pins are the outputs of the internal power switches. Connect these pins to the inductors and switching diodes", 4 BOOST1 "The BOOST pins are used to provide drive voltages, higher than the input voltage, to the internal bipolar NPN power switches. These pins must be tied through a diode from VOUT, VIN or another supply greater than 2.5V.", 5 VIN1 (power) "The VIN1 pins supply power to the internal switch of the 2.7A regulator and to the LT3507A’s internal reference and start-up circuitry. These pins must be locally bypassed.", 6 VIN1 (power) "The VIN1 pins supply power to the internal switch of the 2.7A regulator and to the LT3507A’s internal reference and start-up circuitry. These pins must be locally bypassed.", 10 VC1 "The VC pins are the outputs of the internal error amps. The voltages on these pins control the peak switch currents. These pins are normally used to compensate the control loops. Each switching regulator can be shut down by (See Datasheet)", 11 TRK/SS1 (in) "The TRK/SS pins allow a regulator to track the output of another regulator. When the TRK/SS pin is below 0.8V, the FB pin regulates to the TRK/SS voltage. This pin souces 1.25uA and can be used as a soft-start by connecting (See Datasheet)", 12 FB1 (in) "The FB pins are the negative inputs of the error amplifiers. The LT3507A regulates each feedback pin to the lesser of 0.8V or the TRK/SS pin voltage. Connect the feedback resistor divider taps to these pins", 13 PGOOD1 (hiz) "The PGOOD pins are the open-collector outputs of an internal comparator. PGOOD remains low until the FB pin is within 10% of the final regulation voltage. As well as indicating output regulation, the PGOOD pins can sequence (See Datasheet)", 17 RUN1 (in) "The RUN pins are used to shut down the individual switching regulators. When all three RUN pins are low, the LT3507A shuts down and draws less than 1uA from VIN1."
part B pins: 14 PGOOD2 (hiz) "The PGOOD pins are the open-collector outputs of an internal comparator. PGOOD remains low until the FB pin is within 10% of the final regulation voltage. As well as indicating output regulation, the PGOOD pins can sequence (See Datasheet)", 18 RUN2 (in) "The RUN pins are used to shut down the individual switching regulators. When all three RUN pins are low, the LT3507A shuts down and draws less than 1uA from VIN1.", 25 TRK/SS2 (in) "The TRK/SS pins allow a regulator to track the output of another regulator. When the TRK/SS pin is below 0.8V, the FB pin regulates to the TRK/SS voltage. This pin souces 1.25uA and can be used as a soft-start by connecting (See Datasheet)", 26 FB2 (in) "The FB pins are the negative inputs of the error amplifiers. The LT3507A regulates each feedback pin to the lesser of 0.8V or the TRK/SS pin voltage. Connect the feedback resistor divider taps to these pins.", 28 VC2 "The VC pins are the outputs of the internal error amps. The voltages on these pins control the peak switch currents. These pins are normally used to compensate the control loops. Each switching regulator can be shut down by (See Datasheet)", 32 BOOST2 "The BOOST pins are used to provide drive voltages, higher than the input voltage, to the internal bipolar NPN power switches. These pins must be tied through a diode from VOUT, VIN or another supply greater than 2.5V.", 33 SW2 (power) "The SW pins are the outputs of the internal power switches. Connect these pins to the inductors and switching diodes", 35 VIN2 (power) "The VIN2 and VIN3 pins supply power to the internal switches of the 1.8A converters. These pins must be locally bypassed.", 36 VIN2 (power) "The VIN2 and VIN3 pins supply power to the internal switches of the 1.8A converters. These pins must be locally bypassed."
part C pins: 1 VIN3 (power) "The VIN2 and VIN3 pins supply power to the internal switches of the 1.8A converters. These pins must be locally bypassed.", 15 PGOOD3 (hiz) "The PGOOD pins are the open-collector outputs of an internal comparator. PGOOD remains low until the FB pin is within 10% of the final regulation voltage. As well as indicating output regulation, the PGOOD pins can sequence (See Datasheet)", 19 RUN3 (in) "The RUN pins are used to shut down the individual switching regulators. When all three RUN pins are low, the LT3507A shuts down and draws less than 1uA from VIN1.", 22 TRK/SS3 (in) "The TRK/SS pins allow a regulator to track the output of another regulator. When the TRK/SS pin is below 0.8V, the FB pin regulates to the TRK/SS voltage. This pin souces 1.25uA and can be used as a soft-start by connecting (See Datasheet)", 23 VC3 "The VC pins are the outputs of the internal error amps. The voltages on these pins control the peak switch currents. These pins are normally used to compensate the control loops. Each switching regulator can be shut down by (See Datasheet)", 24 FB3 (in) "The FB pins are the negative inputs of the error amplifiers. The LT3507A regulates each feedback pin to the lesser of 0.8V or the TRK/SS pin voltage. Connect the feedback resistor divider taps to these pins", 37 BOOST3 "The BOOST pins are used to provide drive voltages, higher than the input voltage, to the internal bipolar NPN power switches. These pins must be tied through a diode from VOUT, VIN or another supply greater than 2.5V.", 38 SW3 (power) "The SW pins are the outputs of the internal power switches. Connect these pins to the inductors and switching diodes"
part D pins: 7 VINSW (power) "The VINSW pin is a switched VIN1 for the user programmable undervoltage and overvoltage detection. It is connected to VIN1 when any of the RUN pins are pulled high, and high impedance when all RUN pins are low or open.", 8 OVLO (in) "The LT3507A goes into overvoltage shutdown when this pin goes above 1.2V. If unused, the OVLO pin should be tied to GND.", 9 UVLO (in) "The LT3507A goes into undervoltage shutdown when this pin drops below 1.2V. If unused, the UVLO pin should be tied to VINSW.", 16 RT/SYNC (in) "The RT/SYNC pin requires a resistor to ground or a clock signal to set the operating frequency of the LT3507A.", 20 GND (power) "Ground. The underside exposed pad metal of the package provides both electrical contact to ground and good thermal contact to the printed circuit board. The exposed pad must be soldered to a grounded pad on the circuit board (See Datasheet)", 21 BIAS (power) "The BIAS pin supplies the current to the LT3507A’s internal regulator. This pin should be tied to the lowest available voltage source above 3V (either VIN, VOUT or any other available supply). The LDO pass transistor?(See Datasheet)", 27 NC, 29 DRIVE (out) "The DRIVE pin provides the base drive for an external NPN transistor used for the LDO regulator.", 30 FB4 (in) "The FB4 pin is the negative input to the LDO error amplifier. It is regulated to 0.8V through the LDO feedback resistor divider.", 31 TRK/SS4 (in) "The TRK/SS pins allow a regulator to track the output of another regulator. When the TRK/SS pin is below 0.8V, the FB pin regulates to the TRK/SS voltage. This pin souces 1.25uA and can be used as a soft-start by connecting (See Datasheet)", 34 NC, 39 EP (power) "Ground. The underside exposed pad metal of the package provides both electrical contact to ground and good thermal contact to the printed circuit board. The exposed pad must be soldered to a grounded pad on the circuit board (See Datasheet)"